# Altium footprint library PCB - CONNECTOR - MOLEX - MOLEX 0532610471.PcbLib: 1 footprints
Each footprint in its own frame and in the unit in brackets; x right, y up, seen from the top. Pads: shape width x height; smd on the part's side, far side on the other; paste and mask are expansions set on the pad; w line width, h text height; cw(c..) or ccw(c..) is an arc to the next point about the centre after c.
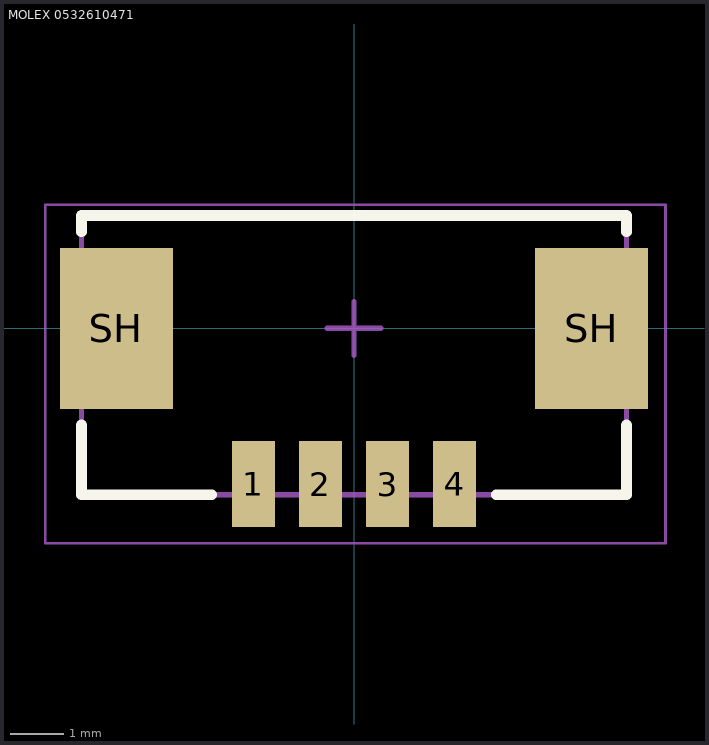
[diagram p0: the footprint, top view; thin cyan lines are the x and y axes]

## MOLEX 0532610471 [mm] "Connector Header Surface Mount, Right Angle 4 position, 1.25mm Pitch, 10.15x4.20 mm Body"
height 3.4
pads (6):
  rect 0.8x1.6 smd: 1(-1.875,-2.9) 2(-0.625,-2.9) 3(0.625,-2.9) 4(1.875,-2.9)
  rect 2.1x3 smd: SH(-4.425,0) SH(4.425,0)
Top Overlay:
  lines w0.2: -5.075,-1.8 -5.075,-3.1 -2.65,-3.1 ; -5.075,1.8 -5.075,2.1 5.075,2.1 5.075,1.8 ; 2.65,-3.1 5.075,-3.1 5.075,-1.8
Mechanical 13:
  lines w0.1: -5.075,-3.1 5.075,-3.1 5.075,2.1 -5.075,2.1 -5.075,-3.1
Mechanical 15 (Mech15):
  lines w0.05: -5.75,-4 5.8,-4 5.8,2.3 -5.75,2.3 -5.75,-4
  lines w0.1: -0.5,0 0,0 ; 0,-0.5 0,0 ; 0,0.5 0,0 ; 0.5,0 0,0
3D body: height 3.4, standoff 0, extent -5.075,-3.1 5.075,2.1